# EAGLE library part MAX320ESA (library Neel)
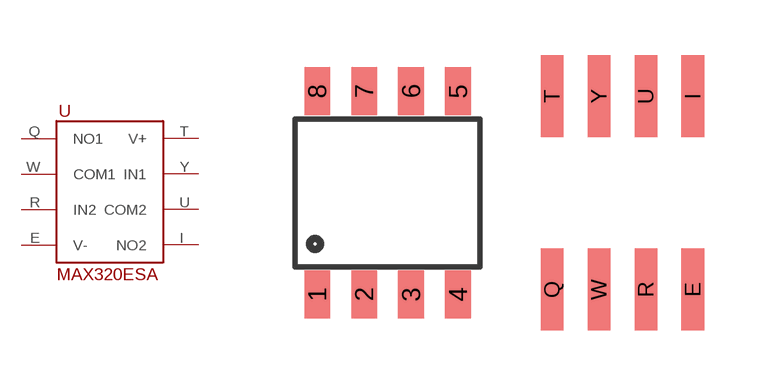
[diagram p11: symbol with the pads of SOIC-8; footprint SOIC-8]

Designator prefix -

## MAX320ESA  [SOIC-8]
E  V-
I  NO2
Q  NO1
R  IN2
T  V+
U  COM2
W  COM1
Y  IN1

## Footprint SOIC-8 (pad centres in mm)
smd 0.7 x 1.3: 1 -5.715,1.06; 2 -4.445,1.06; 3 -3.175,1.06; 4 -1.905,1.06; 5 -1.905,6.56; 6 -3.175,6.56; 7 -4.445,6.56; 8 -5.715,6.56
smd 0.61 x 2.21: E 4.445,1.194; I 4.445,6.426; Q 0.635,1.194; R 3.175,1.194; T 0.635,6.426; U 3.175,6.426; W 1.905,1.194; Y 1.905,6.426